# EAGLE library part 91.201 (library altech)
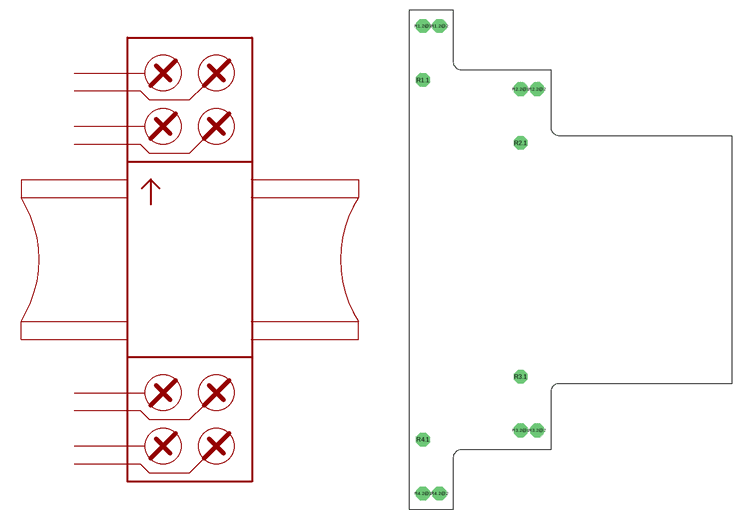
[diagram p0: symbol with the pads of 91.201; footprint 91.201]

Designator prefix K

## 91.201  [91.201]
R1.1  R1.1
R1.2@1  R1.2
R2.1  R2.1
R2.2@1  R2.2
R3.1  R3.1
R3.2@1  R3.2
R4.1  R4.1
R4.2@1  R4.2

## Footprint 91.201 (pad centres in mm)
DIN rail mount polycarb enclosure. PCB is vertical mount
drill 1.4 octagon: R1.1 2.06,66; R1.2@1 2.06,74.3; R1.2@2 4.6,74.3; R2.1 17.06,56.35; R2.2@1 17.06,64.6; R2.2@2 19.6,64.6; R3.1 17.06,20.45; R3.2@1 17.06,12.2; R3.2@2 19.6,12.2; R4.1 2.06,10.8; R4.2@1 2.06,2.5; R4.2@2 4.6,2.5